# Altium footprint library PCB1.PcbLib: 1 footprints
Each footprint in its own frame and in the unit in brackets; x right, y up, seen from the top. Pads: shape width x height; smd on the part's side, far side on the other; paste and mask are expansions set on the pad; w line width, h text height; cw(c..) or ccw(c..) is an arc to the next point about the centre after c.
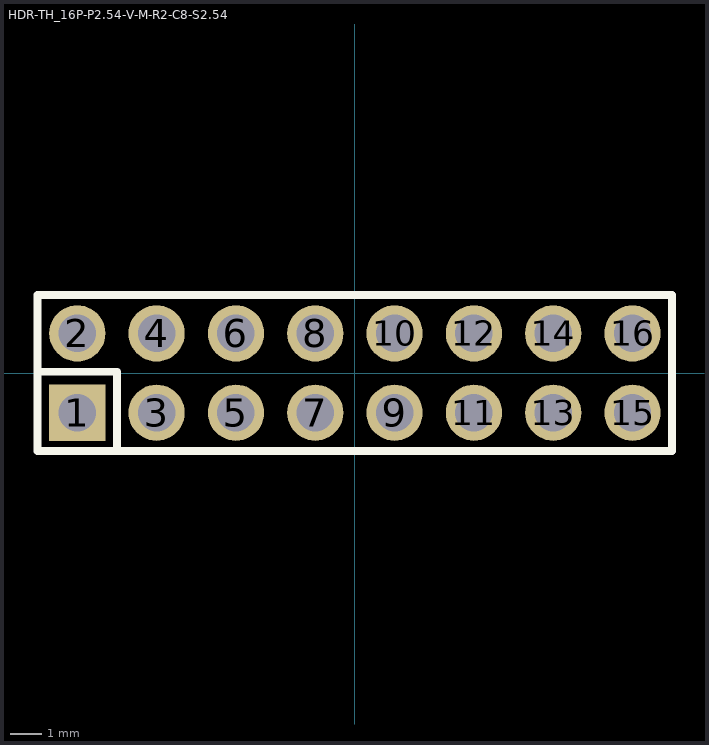
[diagram p0: the footprint, top view; thin cyan lines are the x and y axes]

## HDR-TH_16P-P2.54-V-M-R2-C8-S2.54 [mil]
pads (16):
  rect 70.9x70.9 hole 47.2: 1(-350,-50)
  round 70.9 hole 47.2: 2(-350,50) 3(-250,-50) 4(-250,50) 5(-150,-50) 6(-150,50) 7(-50,-50) 8(-50,50) 9(50,-50) 10(50,50) 11(150,-50) 12(150,50) 13(250,-50) 14(250,50) 15(350,-50) 16(350,50)
Top Overlay:
  lines w10: -400,1.6 -300,1.6 -300,-98.4 ; -400,-98.4 -400,98.4 400,98.4 400,-98.4 -400,-98.4
Mechanical 7:
  lines w2: -400,-98.4 -400,98.4 400,98.4 400,-98.4 -400,-98.4
Mechanical 8:
  region: -397.7,-98.4 -398.1,-99.7 -399.1,-100.6 -400.4,-100.8 -401.6,-100.2 -402.3,-99.1 -402.3,-97.8 -401.6,-96.7 -400.4,-96.1 -399.1,-96.3 -398.1,-97.2
Mechanical 9:
  region: 337.4,62.6 362.6,62.6 362.6,37.4 337.4,37.4
  region: 337.4,-37.4 362.6,-37.4 362.6,-62.6 337.4,-62.6
  region: 237.4,62.6 262.6,62.6 262.6,37.4 237.4,37.4
  region: 237.4,-37.4 262.6,-37.4 262.6,-62.6 237.4,-62.6
  region: 137.4,62.6 162.6,62.6 162.6,37.4 137.4,37.4
  region: 137.4,-37.4 162.6,-37.4 162.6,-62.6 137.4,-62.6
  region: 37.4,62.6 62.6,62.6 62.6,37.4 37.4,37.4
  region: 37.4,-37.4 62.6,-37.4 62.6,-62.6 37.4,-62.6
  region: -62.6,62.6 -37.4,62.6 -37.4,37.4 -62.6,37.4
  region: -62.6,-37.4 -37.4,-37.4 -37.4,-62.6 -62.6,-62.6
  region: -162.6,62.6 -137.4,62.6 -137.4,37.4 -162.6,37.4
  region: -162.6,-37.4 -137.4,-37.4 -137.4,-62.6 -162.6,-62.6
  region: -262.6,62.6 -237.4,62.6 -237.4,37.4 -262.6,37.4
  region: -262.6,-37.4 -237.4,-37.4 -237.4,-62.6 -262.6,-62.6
  region: -362.6,62.6 -337.4,62.6 -337.4,37.4 -362.6,37.4
  region: -362.6,-37.4 -337.4,-37.4 -337.4,-62.6 -362.6,-62.6